# EAGLE library part 25AA02E48-6SOT23-5 (library jonsowman)
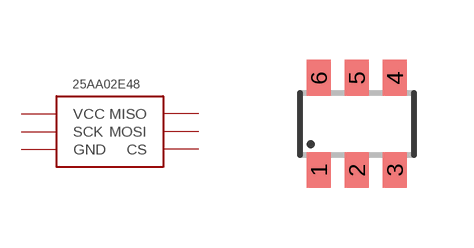
[diagram p10: symbol with the pads of SOT23-6; footprint SOT23-6]

Designator prefix -

## 25AA02E48-6SOT23-5  [SOT23-6]
1  SCK
2  GND
3  MOSI
4  MISO
5  CS
6  VCC

## Footprint SOT23-6 (pad centres in mm)
Small Outline Transistor 6 lead
smd 0.6 x 0.9: 1 -0.95,-1.15; 2 0,-1.15; 3 0.95,-1.15; 4 0.95,1.15; 5 0,1.15; 6 -0.95,1.15